# Altium integrated library Illuminated_Switches_rev15a.intlib: 10 symbols
Pins are listed as number, name and electrical type; pins without a type are passive.

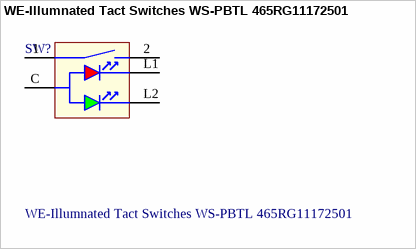
[diagram p0: symbol WE-Illumnated Tact Switches WS-PBTL 465RG11172501]

## WE-Illumnated Tact Switches WS-PBTL 465RG11172501
designator SW?
WS-PBTL 15 x 15mm Push Button Switch with integrated LED, THT version; Manufacturer: W¨¹rth Elektronik eiSos GmbH & Co.KG; ComponentLink1 Description: Manufacturer; ComponentLink2 Description: Datasheet; Creat by: Karrer Zheng; NoPins: 05; Creat Date: 24 March 2014; partNo: 465RG11172501; ComponentLink1URL: http://www.we-online.com; ComponentLink2URL: http://katalog.we-online.de/em/datasheet/465RG11172501.pdf
footprint 465RG11172501 (15x15mm vertical center type, THT, height 19.5mm, 12*12mm actuator, SPST, red/green Bi-color LED, with boss design, Tray)
pins: 1, 2, C, L1, L2


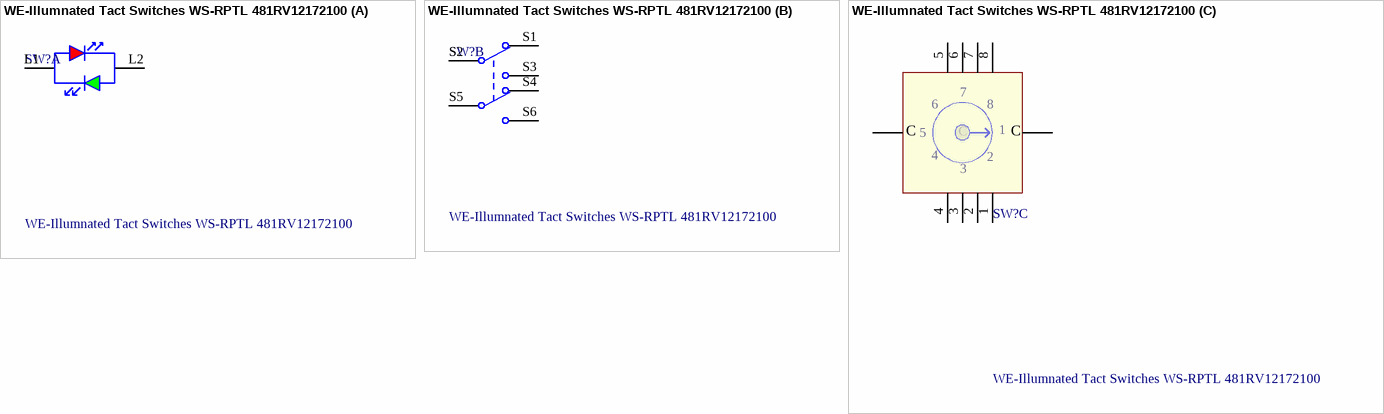
[diagram p1: symbol WE-Illumnated Tact Switches WS-RPTL 481RV12172100]

## WE-Illumnated Tact Switches WS-RPTL 481RV12172100
designator SW?
WS-RPTL 20 x 20mm Rotary / Push Button Switch with integrated LED, THT version; Manufacturer: W¨¹rth Elektronik eiSos GmbH & Co.KG; ComponentLink1 Description: Manufacturer; ComponentLink2 Description: Datasheet; Creat by: Karrer Zheng; NoPins: 18; Creat Date: 24 March 2014; partNo: 481RV12172100; ComponentLink1URL: http://www.we-online.com; ComponentLink2URL: http://katalog.we-online.de/em/datasheet/481RV12172100.pdf
footprint 481RV12172100 (15x15mm vertical center type, THT, height 19.5mm, 12*12mm actuator, SPST, red/green Bi-color LED, with boss design, Tray)
part A pins: L1, L2
part B pins: S1, S2, S3, S4, S5, S6
part C pins: 1, 2, 3, 4, 5, 6, 7, 8, C1, C2
part C text: C


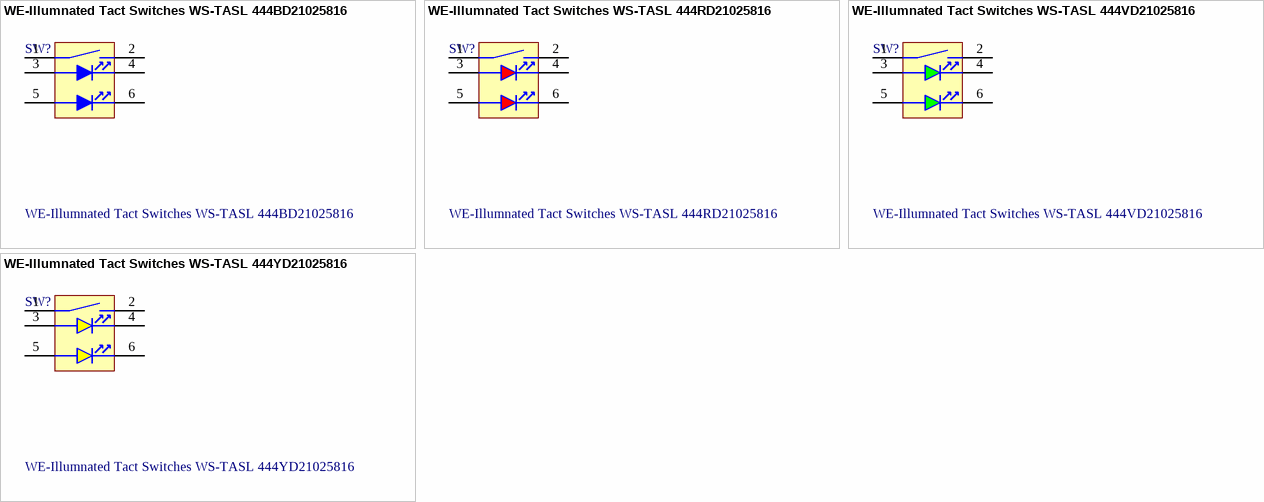
[diagram p2: symbols WE-Illumnated Tact Switches WS-TASL 444BD21025816 to WE-Illumnated Tact Switches WS-TASL 444YD21025816]

## WE-Illumnated Tact Switches WS-TASL 444BD21025816
designator SW?
WS-TASL 6,8*4,5mm Tact Switch with integrated LED, SMD version, 6 pins; Manufacturer: Würth Elektronik eiSos GmbH & Co.KG; ComponentLink1 Description: Manufacturer; ComponentLink2 Description: Datasheet; Creat by: Karrer Zheng; NoPins: 06; Creat Date: 19 March February 2014; partNo: 444BD21025816; ComponentLink1URL: http://www.we-online.com; ComponentLink2URL: http://katalog.we-online.de/em/datasheet/444xx21025816.pdf
footprint 444BD21025816 (8*4.5mm vertical type, SMD, height 2.5mm, blue double color LED, T&R)
pins: 1, 2, 3, 4, 5, 6

## WE-Illumnated Tact Switches WS-TASL 444RD21025816
designator SW?
WS-TASL 6,8*4,5mm Tact Switch with integrated LED, SMD version, 6 pins; Manufacturer: Würth Elektronik eiSos GmbH & Co.KG; ComponentLink1 Description: Manufacturer; ComponentLink2 Description: Datasheet; Creat by: Karrer Zheng; NoPins: 06; Creat Date: 19 March February 2014; partNo: 444RD21025816; ComponentLink1URL: http://www.we-online.com; ComponentLink2URL: http://katalog.we-online.de/em/datasheet/444xx21025816.pdf
footprint 444RD21025816 (8*4.5mm vertical type, SMD, height 2.5mm, red double color LED, T&R)
pins: 1, 2, 3, 4, 5, 6

## WE-Illumnated Tact Switches WS-TASL 444VD21025816
designator SW?
WS-TASL 6,8*4,5mm Tact Switch with integrated LED, SMD version, 6 pins; Manufacturer: Würth Elektronik eiSos GmbH & Co.KG; ComponentLink1 Description: Manufacturer; ComponentLink2 Description: Datasheet; Creat by: Karrer Zheng; NoPins: 06; Creat Date: 19 March February 2014; partNo: 444VD21025816; ComponentLink1URL: http://www.we-online.com; ComponentLink2URL: http://katalog.we-online.de/em/datasheet/444xx21025816.pdf
footprint 444VD21025816 (8*4.5mm vertical type, SMD, height 2.5mm, bright green double color LED, T&R)
pins: 1, 2, 3, 4, 5, 6

## WE-Illumnated Tact Switches WS-TASL 444YD21025816
designator SW?
WS-TASL 6,8*4,5mm Tact Switch with integrated LED, SMD version, 6 pins; Manufacturer: Würth Elektronik eiSos GmbH & Co.KG; ComponentLink1 Description: Manufacturer; ComponentLink2 Description: Datasheet; Creat by: Karrer Zheng; NoPins: 06; Creat Date: 19 March February 2014; partNo: 444YD21025816; ComponentLink1URL: http://www.we-online.com; ComponentLink2URL: http://katalog.we-online.de/em/datasheet/444xx21025816.pdf
footprint 444YD21025816 (8*4.5mm vertical type, SMD, height 2.5mm, yellow double color LED, T&R)
pins: 1, 2, 3, 4, 5, 6


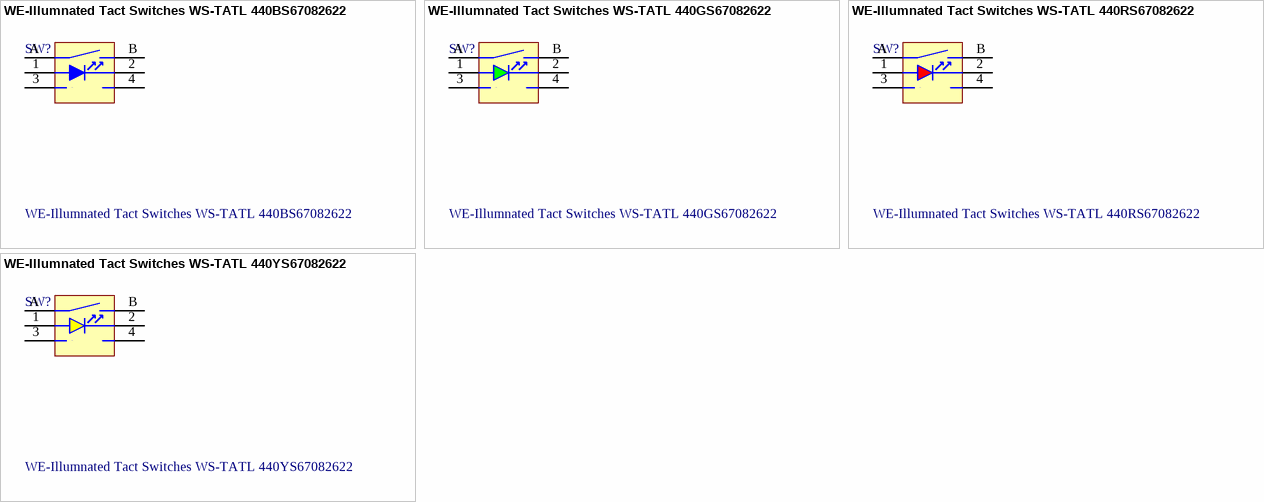
[diagram p3: symbols WE-Illumnated Tact Switches WS-TATL 440BS67082622 to WE-Illumnated Tact Switches WS-TATL 440YS67082622]

## WE-Illumnated Tact Switches WS-TATL 440BS67082622
designator SW?
WS-TATL 12x12mm Tact Switch with integrated LED, THT version, 6 pins; Manufacturer: Würth Elektronik eiSos GmbH & Co.KG; ComponentLink1 Description: Manufacturer; ComponentLink2 Description: Datasheet; Creat by: Karrer Zheng; NoPins: 06; Creat Date: 18 March February 2014; partNo: 440BS67082622; ComponentLink1URL: http://www.we-online.com; ComponentLink2URL: http://katalog.we-online.de/em/datasheet/440xx67082622.pdf
footprint 440BS67082622 (12*12 vertical type, THT, height 8.2mm,white diffuser plate, blue LED, Tray)
pins: 1, 2, 3, 4, A, B

## WE-Illumnated Tact Switches WS-TATL 440GS67082622
designator SW?
WS-TATL 12x12mm Tact Switch with integrated LED, THT version, 6 pins; Manufacturer: Würth Elektronik eiSos GmbH & Co.KG; ComponentLink1 Description: Manufacturer; ComponentLink2 Description: Datasheet; Creat by: Karrer Zheng; NoPins: 06; Creat Date: 18 March February 2014; partNo: 440GS67082622; ComponentLink1URL: http://www.we-online.com; ComponentLink2URL: http://katalog.we-online.de/em/datasheet/440xx67082622.pdf
footprint 440GS67082622 (12*12 vertical type, THT, height 8.2mm,white diffuser plate, pure green LED, Tray)
pins: 1, 2, 3, 4, A, B

## WE-Illumnated Tact Switches WS-TATL 440RS67082622
designator SW?
WS-TATL 12x12mm Tact Switch with integrated LED, THT version, 6 pins; Manufacturer: Würth Elektronik eiSos GmbH & Co.KG; ComponentLink1 Description: Manufacturer; ComponentLink2 Description: Datasheet; Creat by: Karrer Zheng; NoPins: 06; Creat Date: 18 March February 2014; partNo: 440RS67082622; ComponentLink1URL: http://www.we-online.com; ComponentLink2URL: http://katalog.we-online.de/em/datasheet/440xx67082622.pdf
footprint 440RS67082622 (12*12 vertical type, THT, height 8.2mm,white diffuser plate, red LED, Tray)
pins: 1, 2, 3, 4, A, B

## WE-Illumnated Tact Switches WS-TATL 440YS67082622
designator SW?
WS-TATL 12x12mm Tact Switch with integrated LED, THT version, 6 pins; Manufacturer: Würth Elektronik eiSos GmbH & Co.KG; ComponentLink1 Description: Manufacturer; ComponentLink2 Description: Datasheet; Creat by: Karrer Zheng; NoPins: 06; Creat Date: 18 March February 2014; partNo: 440YS67082622; ComponentLink1URL: http://www.we-online.com; ComponentLink2URL: http://katalog.we-online.de/em/datasheet/440xx67082622.pdf
footprint 440YS67082622 (12*12 vertical type, THT, height 8.2mm,white diffuser plate, yellow LED, Tray)
pins: 1, 2, 3, 4, A, B